# EAGLE library part XMC45XX-L100 (library PatternAgents-Infineon)
Infineon XMC45XX ARM Cortex M4 For the CADSoft Eagle CAD program : http://www.cadsoftusa.com/download-eagle/ Source LBR : http://www.patternagents.com Github : https://github.com/PatternAgents License : http://creativecommons.org/licenses/by-sa/4.0/ (Creative Commons 4.0) THIS SOFTWARE IS PROVIDED BY THE CONTRIBUTORS "AS IS" AND WITHOUT ANY EXPRESS OR IMPLIED WARRANTIES, INCLUDING, BUT NOT LIMITED TO, THE IMPLIED WARRANTIES OF MERCHANTABILITY AND FITNESS FOR A PARTICULAR PURPOSE ARE DISCLAIMED. IN NO EVENT SHALL THE COPYRIGHT OWNER OR CONTRIBUTORS BE LIABLE FOR ANY DIRECT, INDIRECT, INCIDENTAL, SPECIAL, EXEMPLARY, OR CONSEQUENTIAL DAMAGES (INCLUDING, BUT NOT LIMITED TO, PROCUREMENT OF SUBSTITUTE GOODS OR SERVICES; LOSS OF USE, DATA, OR PROFITS; OR BUSINESS INTERRUPTION) HOWEVER CAUSED AND ON ANY THEORY OF LIABILITY, WHETHER IN CONTRACT, STRICT LIABILITY, OR TORT (INCLUDING NEGLIGENCE OR OTHERWISE) ARISING IN ANY WAY OUT OF THE USE OF THIS SOFTWARE, EVEN IF ADVISED OF THE POSSIBILITY OF SUCH DAMAGE.
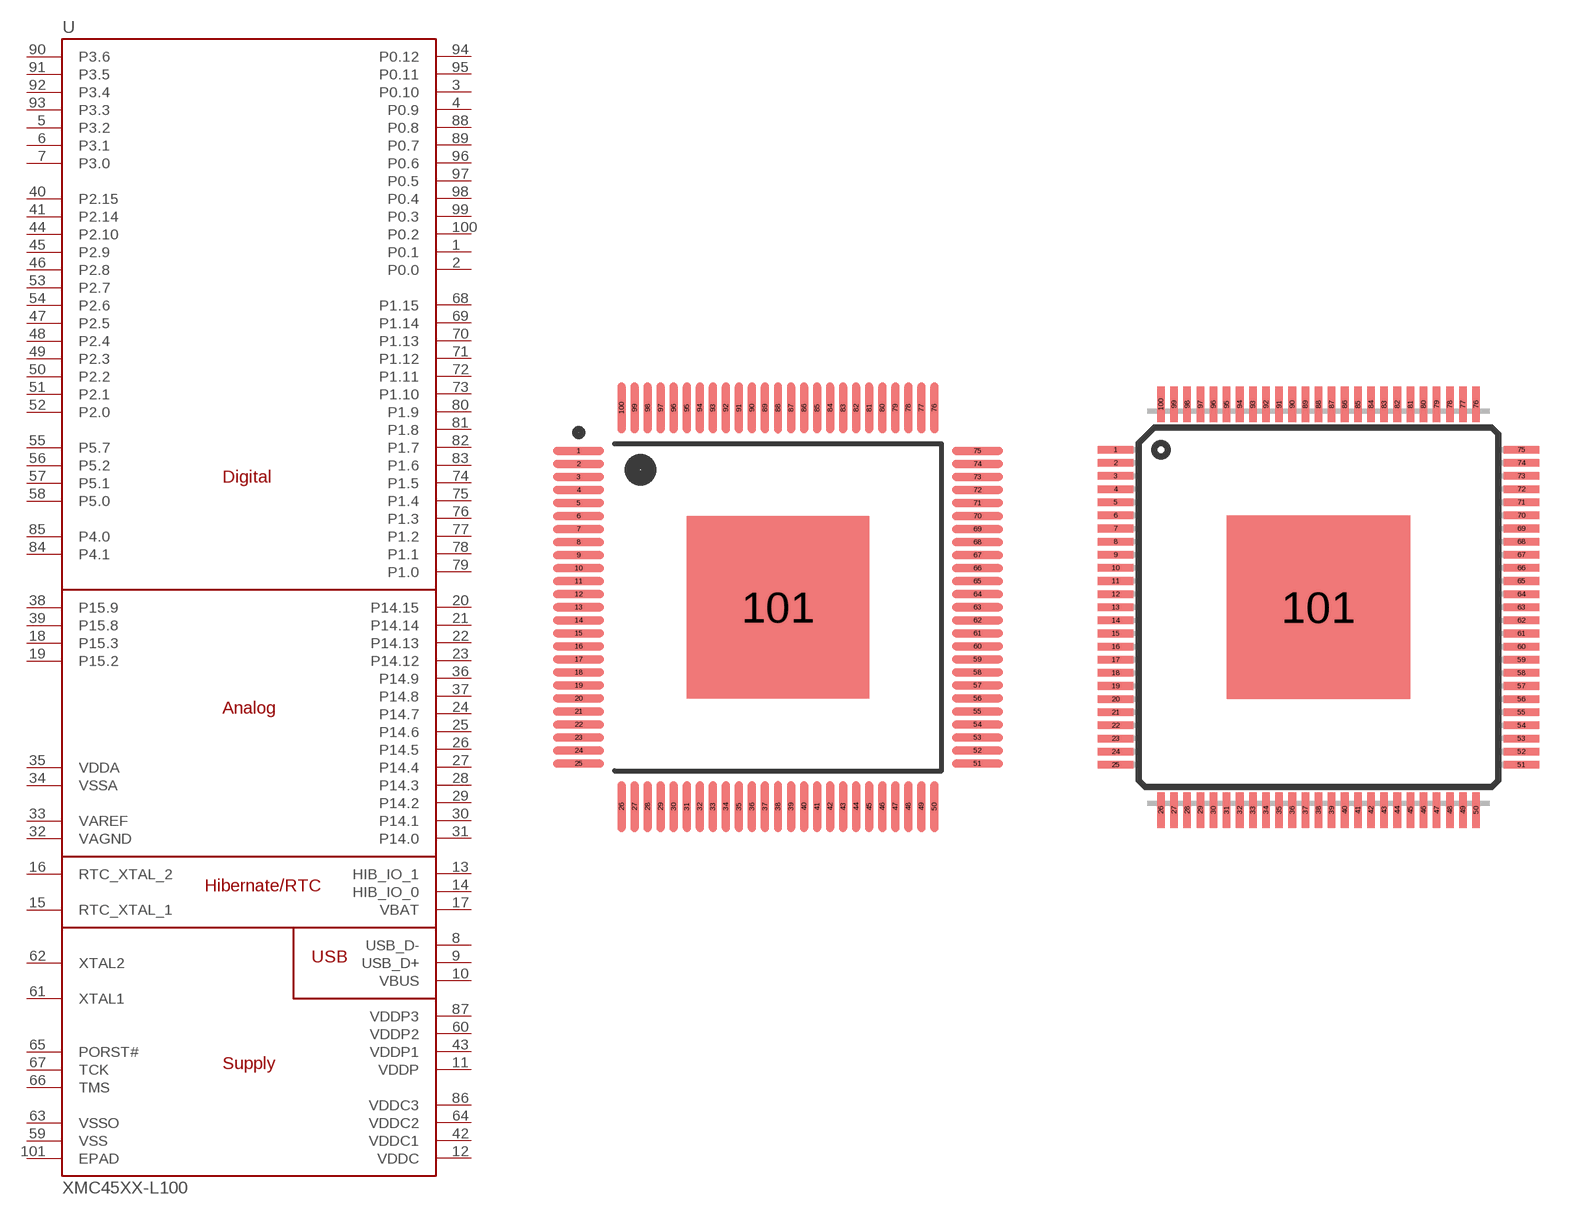
[diagram p18: symbol with the pads of INF-PG-LQFP-100-11_M; footprints INF-PG-LQFP-100-11_M, PG-LQFP-100-11]

Designator prefix U

## XMC45XX-L100_M  [INF-PG-LQFP-100-11_M]
1  P0.1
2  P0.0
3  P0.10
4  P0.9
5  P3.2
6  P3.1
7  P3.0
8  USB_D-
9  USB_D+
10  VBUS
11  VDDP
12  VDDC
13  HIB_IO_1
14  HIB_IO_0
15  RTC_XTAL_1
16  RTC_XTAL_2
17  VBAT
18  P15.3
19  P15.2
20  P14.15
21  P14.14
22  P14.13
23  P14.12
24  P14.7
25  P14.6
26  P14.5
27  P14.4
28  P14.3
29  P14.2
30  P14.1
31  P14.0
32  VAGND
33  VAREF
34  VSSA
35  VDDA
36  P14.9
37  P14.8
38  P15.9
39  P15.8
40  P2.15
41  P2.14
42  VDDC1
43  VDDP1
44  P2.10
45  P2.9
46  P2.8
47  P2.5
48  P2.4
49  P2.3
50  P2.2
51  P2.1
52  P2.0
53  P2.7
54  P2.6
55  P5.7
56  P5.2
57  P5.1
58  P5.0
59  VSS
60  VDDP2
61  XTAL1
62  XTAL2
63  VSSO
64  VDDC2
65  PORST#
66  TMS
67  TCK
68  P1.15
69  P1.14
70  P1.13
71  P1.12
72  P1.11
73  P1.10
74  P1.5
75  P1.4
76  P1.3
77  P1.2
78  P1.1
79  P1.0
80  P1.9
81  P1.8
82  P1.7
83  P1.6
84  P4.1
85  P4.0
86  VDDC3
87  VDDP3
88  P0.8
89  P0.7
90  P3.6
91  P3.5
92  P3.4
93  P3.3
94  P0.12
95  P0.11
96  P0.6
97  P0.5
98  P0.4
99  P0.3
100  P0.2
101  EPAD

## XMC45XX-L100  [PG-LQFP-100-11]
Pads as for INF-PG-LQFP-100-11_M

## Footprint INF-PG-LQFP-100-11_M (pad centres in mm)
Infineon PG-LQFP-100-1 100 Pin Plastic (Green) Low Profile Quad Flat Package - Version 10 Notes : Prototype (loose) spacing Reference <http://www.infineon.com/cms/packages/SMD_-_Surface_Mounted_Devices/P-PG-LQFP/P-PG-LQFP-100-06x_-10.html> For the CADSoft Eagle CAD program : http://www.cadsoftusa.com/download-eagle/ Source LBR : http://www.patternagents.com Github : https://github.com/PatternAgents License : http://creativecommons.org/licenses/by-sa/4.0/ (Creative Commons 4.0) THIS SOFTWARE IS PROVIDED BY THE CONTRIBUTORS "AS IS" AND WITHOUT ANY EXPRESS OR IMPLIED WARRANTIES, INCLUDING, BUT NOT LIMITED TO, THE IMPLIED WARRANTIES OF MERCHANTABILITY AND FITNESS FOR A PARTICULAR PURPOSE ARE DISCLAIMED. IN NO EVENT SHALL THE COPYRIGHT OWNER OR CONTRIBUTORS BE LIABLE FOR ANY DIRECT, INDIRECT, INCIDENTAL, SPECIAL, EXEMPLARY, OR CONSEQUENTIAL DAMAGES (INCLUDING, BUT NOT LIMITED TO, PROCUREMENT OF SUBSTITUTE GOODS OR SERVICES; LOSS OF USE, DATA, OR PROFITS; OR BUSINESS INTERRUPTION) HOWEVER CAUSED AND ON ANY THEORY OF LIABILITY, WHETHER IN CONTRACT, STRICT LIABILITY, OR TORT (INCLUDING NEGLIGENCE OR OTHERWISE) ARISING IN ANY WAY OUT OF THE USE OF THIS SOFTWARE, EVEN IF ADVISED OF THE POSSIBILITY OF SUCH DAMAGE.
smd 1.95 x 0.3: 1 -7.65,6; 2 -7.65,5.5; 3 -7.65,5; 4 -7.65,4.5; 5 -7.65,4; 6 -7.65,3.5; 7 -7.65,3; 8 -7.65,2.5; 9 -7.65,2; 10 -7.65,1.5; 11 -7.65,1; 12 -7.65,0.5; 13 -7.65,0; 14 -7.65,-0.5; 15 -7.65,-1; 16 -7.65,-1.5; 17 -7.65,-2; 18 -7.65,-2.5; 19 -7.65,-3; 20 -7.65,-3.5; 21 -7.65,-4; 22 -7.65,-4.5; 23 -7.65,-5; 24 -7.65,-5.5; 25 -7.65,-6; 51 7.65,-6; 52 7.65,-5.5; 53 7.65,-5; 54 7.65,-4.5; 55 7.65,-4; 56 7.65,-3.5; 57 7.65,-3; 58 7.65,-2.5; 59 7.65,-2; 60 7.65,-1.5; 61 7.65,-1; 62 7.65,-0.5; 63 7.65,0; 64 7.65,0.5; 65 7.65,1; 66 7.65,1.5; 67 7.65,2; 68 7.65,2.5; 69 7.65,3; 70 7.65,3.5; 71 7.65,4; 72 7.65,4.5; 73 7.65,5; 74 7.65,5.5; 75 7.65,6
smd 0.3 x 1.95: 26 -6,-7.65; 27 -5.5,-7.65; 28 -5,-7.65; 29 -4.5,-7.65; 30 -4,-7.65; 31 -3.5,-7.65; 32 -3,-7.65; 33 -2.5,-7.65; 34 -2,-7.65; 35 -1.5,-7.65; 36 -1,-7.65; 37 -0.5,-7.65; 38 0,-7.65; 39 0.5,-7.65; 40 1,-7.65; 41 1.5,-7.65; 42 2,-7.65; 43 2.5,-7.65; 44 3,-7.65; 45 3.5,-7.65; 46 4,-7.65; 47 4.5,-7.65; 48 5,-7.65; 49 5.5,-7.65; 50 6,-7.65; 76 6,7.65; 77 5.5,7.65; 78 5,7.65; 79 4.5,7.65; 80 4,7.65; 81 3.5,7.65; 82 3,7.65; 83 2.5,7.65; 84 2,7.65; 85 1.5,7.65; 86 1,7.65; 87 0.5,7.65; 88 0,7.65; 89 -0.5,7.65; 90 -1,7.65; 91 -1.5,7.65; 92 -2,7.65; 93 -2.5,7.65; 94 -3,7.65; 95 -3.5,7.65; 96 -4,7.65; 97 -4.5,7.65; 98 -5,7.65; 99 -5.5,7.65; 100 -6,7.65
smd 7 x 7: 101 0,0

## Footprint PG-LQFP-100-11 (pad centres in mm)
Infineon PG-LQFP-100-1 100 Pin Plastic (Green) Low Profile Quad Flat Package - Version 10 Notes : Prototype (loose) spacing Reference <http://www.infineon.com/cms/packages/SMD_-_Surface_Mounted_Devices/P-PG-LQFP/P-PG-LQFP-100-06x_-10.html> For the CADSoft Eagle CAD program : http://www.cadsoftusa.com/download-eagle/ Source LBR : http://www.patternagents.com Github : https://github.com/PatternAgents License : http://creativecommons.org/licenses/by-sa/4.0/ (Creative Commons 4.0) THIS SOFTWARE IS PROVIDED BY THE CONTRIBUTORS "AS IS" AND WITHOUT ANY EXPRESS OR IMPLIED WARRANTIES, INCLUDING, BUT NOT LIMITED TO, THE IMPLIED WARRANTIES OF MERCHANTABILITY AND FITNESS FOR A PARTICULAR PURPOSE ARE DISCLAIMED. IN NO EVENT SHALL THE COPYRIGHT OWNER OR CONTRIBUTORS BE LIABLE FOR ANY DIRECT, INDIRECT, INCIDENTAL, SPECIAL, EXEMPLARY, OR CONSEQUENTIAL DAMAGES (INCLUDING, BUT NOT LIMITED TO, PROCUREMENT OF SUBSTITUTE GOODS OR SERVICES; LOSS OF USE, DATA, OR PROFITS; OR BUSINESS INTERRUPTION) HOWEVER CAUSED AND ON ANY THEORY OF LIABILITY, WHETHER IN CONTRACT, STRICT LIABILITY, OR TORT (INCLUDING NEGLIGENCE OR OTHERWISE) ARISING IN ANY WAY OUT OF THE USE OF THIS SOFTWARE, EVEN IF ADVISED OF THE POSSIBILITY OF SUCH DAMAGE. PG-LQFP-100-11, leadframe no: C66065-A6837-C024-01-004 EPad: 7.0 x 7.0 mm LQFP-100 package with 7.0 x 7.0mm Exposed Pad Tie exposed pad with approx. 0.2mm thermal vias to GND. Refer to IFX Recommendations for Printed Circuit Board Assembly of Infineon PG-LQFP-64-6, -8 -11 / PG-LQFP-100-2 / PG-LQFP-100-3 / PG-LQFP-144-4 Packages
smd 1.35 x 0.29: 1 -7.725,6; 2 -7.725,5.5; 3 -7.725,5; 4 -7.725,4.5; 5 -7.725,4; 6 -7.725,3.5; 7 -7.725,3; 8 -7.725,2.5; 9 -7.725,2; 10 -7.725,1.5; 11 -7.725,1; 12 -7.725,0.5; 13 -7.725,0; 14 -7.725,-0.5; 15 -7.725,-1; 16 -7.725,-1.5; 17 -7.725,-2; 18 -7.725,-2.5; 19 -7.725,-3; 20 -7.725,-3.5; 21 -7.725,-4; 22 -7.725,-4.5; 23 -7.725,-5; 24 -7.725,-5.5; 25 -7.725,-6; 51 7.725,-6; 52 7.725,-5.5; 53 7.725,-5; 54 7.725,-4.5; 55 7.725,-4; 56 7.725,-3.5; 57 7.725,-3; 58 7.725,-2.5; 59 7.725,-2; 60 7.725,-1.5; 61 7.725,-1; 62 7.725,-0.5; 63 7.725,0; 64 7.725,0.5; 65 7.725,1; 66 7.725,1.5; 67 7.725,2; 68 7.725,2.5; 69 7.725,3; 70 7.725,3.5; 71 7.725,4; 72 7.725,4.5; 73 7.725,5; 74 7.725,5.5; 75 7.725,6
smd 0.29 x 1.35: 26 -6,-7.725; 27 -5.5,-7.725; 28 -5,-7.725; 29 -4.5,-7.725; 30 -4,-7.725; 31 -3.5,-7.725; 32 -3,-7.725; 33 -2.5,-7.725; 34 -2,-7.725; 35 -1.5,-7.725; 36 -1,-7.725; 37 -0.5,-7.725; 38 0,-7.725; 39 0.5,-7.725; 40 1,-7.725; 41 1.5,-7.725; 42 2,-7.725; 43 2.5,-7.725; 44 3,-7.725; 45 3.5,-7.725; 46 4,-7.725; 47 4.5,-7.725; 48 5,-7.725; 49 5.5,-7.725; 50 6,-7.725; 76 6,7.725; 77 5.5,7.725; 78 5,7.725; 79 4.5,7.725; 80 4,7.725; 81 3.5,7.725; 82 3,7.725; 83 2.5,7.725; 84 2,7.725; 85 1.5,7.725; 86 1,7.725; 87 0.5,7.725; 88 0,7.725; 89 -0.5,7.725; 90 -1,7.725; 91 -1.5,7.725; 92 -2,7.725; 93 -2.5,7.725; 94 -3,7.725; 95 -3.5,7.725; 96 -4,7.725; 97 -4.5,7.725; 98 -5,7.725; 99 -5.5,7.725; 100 -6,7.725
smd 7 x 7: 101 0,0